# Altium schematic symbol library XTAL,32.768kHz,9pF,SMD.Schlib: 1 symbol
Pins are listed as number, name and electrical type; pins without a type are passive.

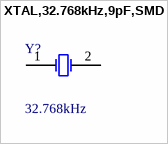
[diagram p0: symbol XTAL,32.768kHz,9pF,SMD]

## XTAL,32.768kHz,9pF,SMD
designator Y?, comment 32.768kHz
32.768 kHz ±20ppm Crystal 9pF 70 kOhms 2-SMD, No Lead
pins: 1 OSC1, 2 GND